# EAGLE library part AD625 (library FreeSmartEEG)
Programmable Gain Instrumentation Amplifier Source: http://www.analog.com/static/imported-files/data_sheets/AD625.pdf
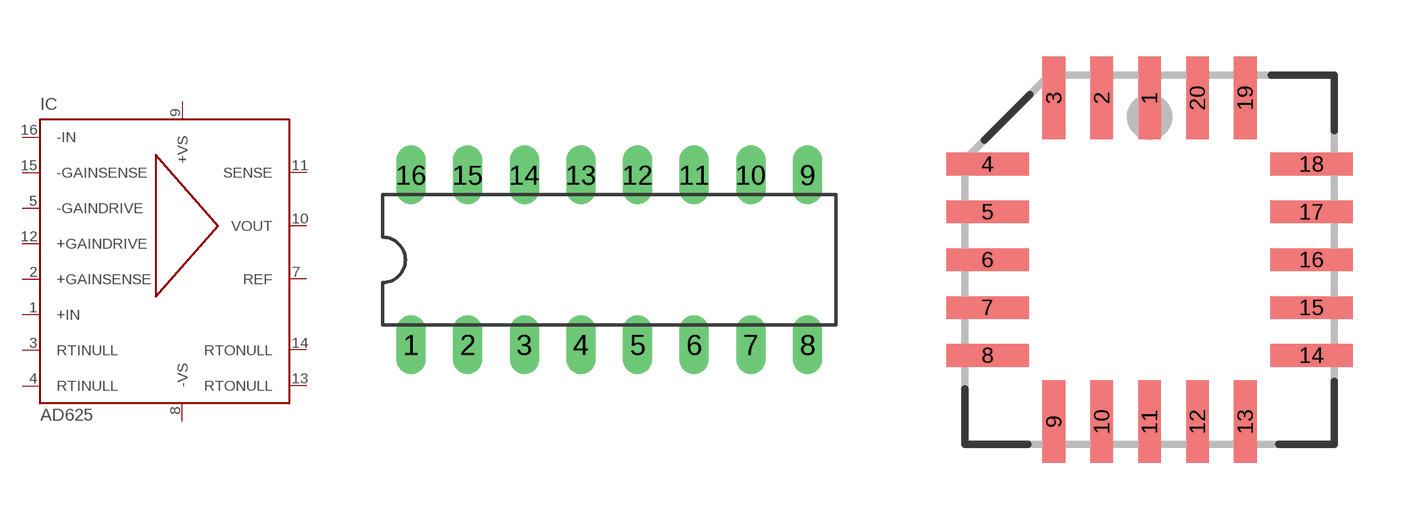
[diagram p86: symbol with the pads of DIL16; footprints DIL16, PLCC20]

Designator prefix IC

## AD625N (MPN: AD625KNZ; OC_FARNELL: 1438353; OC_NEWARK: 15P0739)  [DIL16]
1  +IN  in
2  +GAINSENSE  in
3  RTINULL  pas
4  RTINULL  pas
5  -GAINDRIVE  in
7  REF  in
8  -VS  in
9  +VS  in
10  VOUT  out
11  SENSE  in
12  +GAINDRIVE  in
13  RTONULL  pas
14  RTONULL  pas
15  -GAINSENSE  in
16  -IN  in

## AD625D (MPN: AD625KNZ; OC_FARNELL: 3182289; OC_NEWARK: 15P0739)  [DIL16]
Pads as for DIL16

## AD625E (OC_FARNELL: unknown; OC_NEWARK: unknown)  [PLCC20]
2  +IN  in
3  +GAINSENSE  in
4  RTINULL  pas
5  RTINULL  pas
7  +GAINDRIVE  in
9  REF  in
10  -VS  in
12  +VS  in
13  VOUT  out
14  SENSE  in
15  -GAINDRIVE  in
17  RTONULL  pas
18  RTONULL  pas
19  -GAINSENSE  in
20  -IN  in

## Footprint DIL16 (pad centres in mm)
Dual In Line Package
drill 0.813 long: 1 -8.89,-3.81; 2 -6.35,-3.81; 3 -3.81,-3.81; 4 -1.27,-3.81; 5 1.27,-3.81; 6 3.81,-3.81; 7 6.35,-3.81; 8 8.89,-3.81; 9 8.89,3.81; 10 6.35,3.81; 11 3.81,3.81; 12 1.27,3.81; 13 -1.27,3.81; 14 -3.81,3.81; 15 -6.35,3.81; 16 -8.89,3.81

## Footprint PLCC20 (pad centres in mm)
Plastic Leaded Chip Carrier IPC standard
smd 0.6 x 2.2: 1 0,4.3; 2 -1.27,4.3; 3 -2.54,4.3; 9 -2.54,-4.3; 10 -1.27,-4.3; 11 0,-4.3; 12 1.27,-4.3; 13 2.54,-4.3; 19 2.54,4.3; 20 1.27,4.3
smd 2.2 x 0.6: 4 -4.3,2.54; 5 -4.3,1.27; 6 -4.3,0; 7 -4.3,-1.27; 8 -4.3,-2.54; 14 4.3,-2.54; 15 4.3,-1.27; 16 4.3,0; 17 4.3,1.27; 18 4.3,2.54